# EAGLE library part TEXAS_INSTRUMENTS-BUCK_CONTROLLER-TPS62480RNCR (library Module_Regulators)
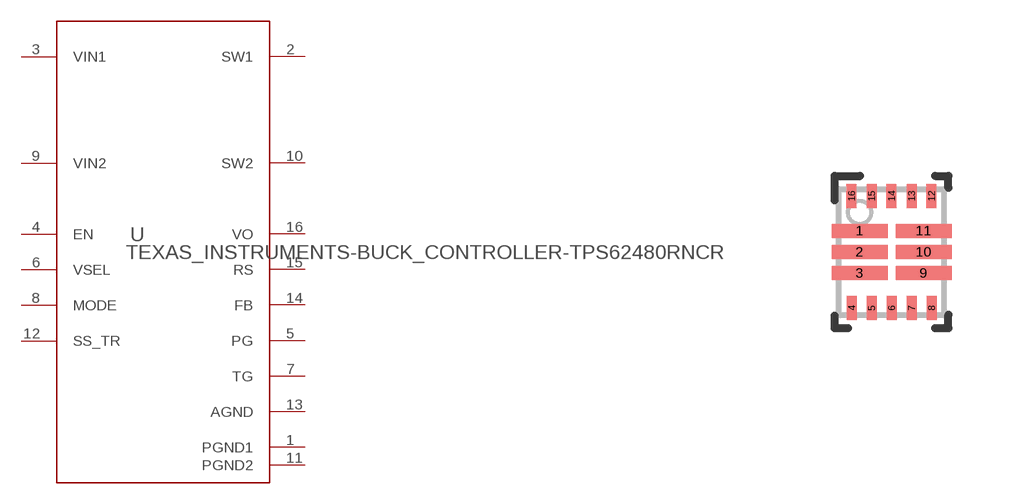
[diagram p2: symbol with the pads of TEXAS_INSTRUMENTS-BUCK_CONTROLLER-TPS62480RNCR; footprint TEXAS_INSTRUMENTS-BUCK_CONTROLLER-TPS62480RNCR]

Designator prefix U

## TEXAS_INSTRUMENTS-BUCK_CONTROLLER-TPS62480RNCR (MANUFACTURER: Texas Instruments; PARTNUMBER: TPS62480RNCR; REFDES: RefDes; TYPE: TYPE; VALUE: Value)  [TEXAS_INSTRUMENTS-BUCK_CONTROLLER-TPS62480RNCR]
1  PGND1  pwr
2  SW1  pwr
3  VIN1  pwr
4  EN  in
5  PG  out
6  VSEL  in
7  TG  pas
8  MODE  in
9  VIN2  pwr
10  SW2  pwr
11  PGND2  pwr
12  SS_TR  in
13  AGND  pwr
14  FB  in
15  RS  pas
16  VO  pas

## Footprint TEXAS_INSTRUMENTS-BUCK_CONTROLLER-TPS62480RNCR (pad centres in mm)
smd 1.4 x 0.35: 1 -0.8,0.53; 2 -0.8,0; 3 -0.8,-0.53; 9 0.8,-0.53; 10 0.8,0; 11 0.8,0.53
smd 0.25 x 0.6: 4 -1,-1.4; 5 -0.5,-1.4; 6 0,-1.4; 7 0.5,-1.4; 8 1,-1.4; 12 1,1.4; 13 0.5,1.4; 14 0,1.4; 15 -0.5,1.4; 16 -1,1.4